# EAGLE library part SN65HVD23*D (library Misaka-IC)
3.3V CAN Bus Transceiver Supply voltage: 3...3.6V Max rate: 1Mbps Standby mode(SN65HVD230D) Sleep mode(SN65HVD231D) Slope control mode
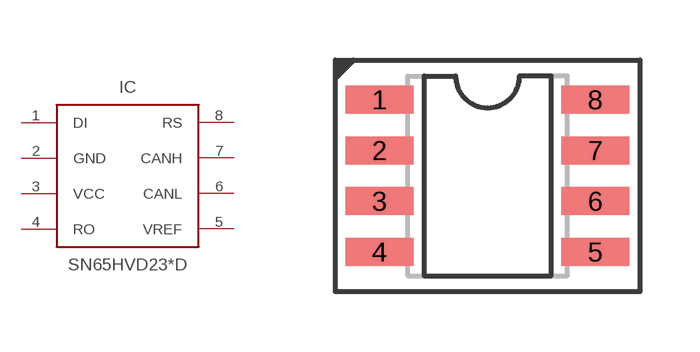
[diagram p6: symbol with the pads of SO-8; footprint SO-8]

Designator prefix IC

## SN65HVD230D, SN65HVD231D  [SO-8]
1  DI  in
2  GND  pwr
3  VCC  pwr
4  RO  out
5  VREF  out
6  CANL
7  CANH
8  RS  in

## Footprint SO-8 (pad centres in mm)
Small-Outline Integrated Circuit 150 mil body
smd 1.7 x 0.7: 1 -2.7,1.905; 2 -2.7,0.635; 3 -2.7,-0.635; 4 -2.7,-1.905; 5 2.7,-1.905; 6 2.7,-0.635; 7 2.7,0.635; 8 2.7,1.905